# Altium schematic symbol library RPE_Sch_Library_Updated.SchLib: 34 symbols
Pins are listed as number, name and electrical type; pins without a type are passive.

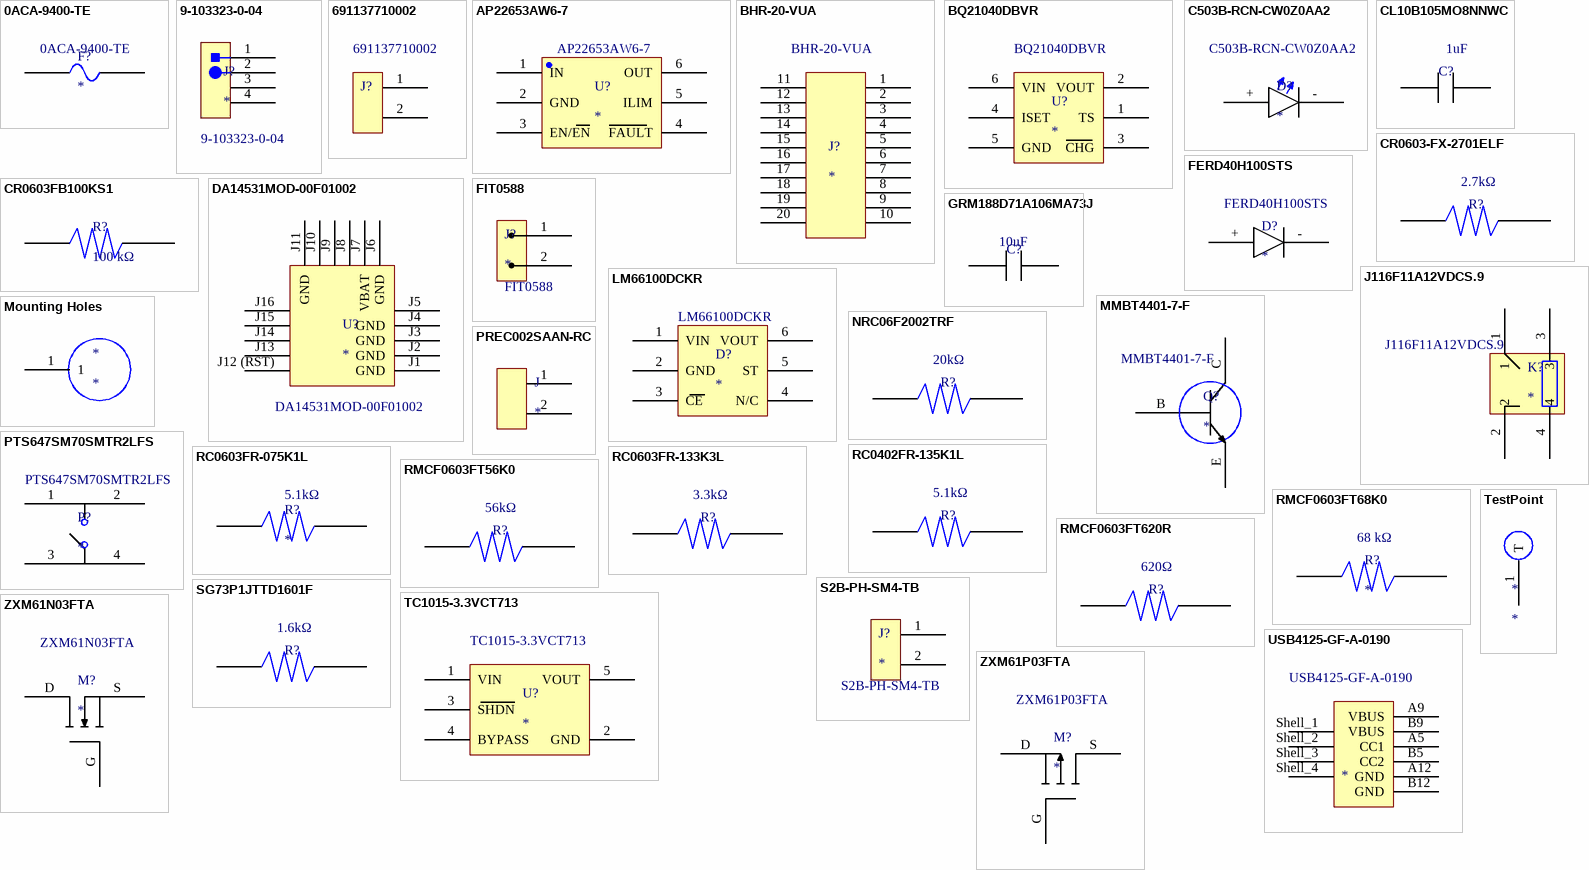
[diagram p0: symbols 0ACA-9400-TE to ZXM61P03FTA]

## 0ACA-9400-TE
designator F?  Manufacturer Part Number: 0ACA-9400-TE
Bel Fuse, Internal Part #: 0ACA-9400-TE 40A FUSE; Supplier: Digikey; Supplier Part Number: 507-0ACA-9400-TECT-ND; Manufacturer: Bel; RoHS: Yes; Category: Fuses; Stock: 695; Pricing: 1=1.32, 5=1.282, 10=1.199, 50=0.9926, 100=0.8272, 250=0.80652, 500=0.68244 (USD)
footprint 0ACA-9400-TE (FUSE BOARD MOUNT 40A 63VDC 2SMD)
pins: 1, 2

## 9-103323-0-04
designator J?  Manufacturer Part Number: 9-103323-0-04
CONN HEADR BRKWAY .100 04POS R/A 4 PIN HEADER; Manufacturer: TE Connectivity; Number of Positions: 4; Gender: Male; Supplier: Digikey; Supplier Part Number: A32705-04-ND; RoHS: Yes; Category: Connectors; Stock: 9773; Pricing: 1=0.69, 10=0.672, 100=0.5422, 500=0.4801, 1000=0.4208, 5000=0.36714, 10000=0.34172 (USD); Mounting Technology: Through Hole; Case/Package: 100; Housing Color: Black; Contact Material: Copper Alloy; Housing Material: Plastic; Contact Shape: Square; Contact Finish - Mating: TIN; Insulation Material: Thermoplastic; Insulation Color: Black; Min Operating Temperature: -65°C; Max Operating Temperature: 105°C; Number of Rows: 1; Packaging: Bulk; Termination: Solder; Number of Contacts: 4; Series: AMPMODU MOD II; Contact Type: Male Pin; Fastening Type: Pull; Length: 9.75mm; Width: 2.29mm; Height: 3.5mm; Lead Free: Lead Free; Flammability Rating: UL94 V-0; ComponentLink1URL: http://www.te.com/commerce/DocumentDelivery/DDEController?Action=srchrtrv&DocNm=103323&DocType=Customer+Drawing&DocLang=English&src-supplier=Digikey; ComponentLink1Description: http://www.te.com/commerce/DocumentDelivery/DDEController?Action=srchrtrv&DocNm=103323&DocType=Customer+Drawing&DocLang=English&src-supplier=Digikey
footprint 9-103323-0-04 (CONN HEADER R/A 4POS 2.54MM)
pins: 1, 2, 3, 4

## 691137710002
designator J?  Manufacturer Part Number: 691137710002  (hidden comment: *)
Series 1377 - 5.00 mm Horizontal Entry with Pressure Clamp WR-TBL, 2 pin; Manufacturer: Wurth Electronics; Plating: Copper Alloy,ZINC PLATED; Number of Levels: 1; Number of Positions Per Level: 2; Current: 16A; Voltage: 300V; Number of Contacts: 2NUMBER; Wire Gauge (Max): 30AWG; Wire Gauge (Min): 12AWG; Supplier: Digikey; Supplier Part Number: 732-10955-ND; RoHS: Yes; Category: Terminal Blocks; Stock: 5754; Pricing: 1=0.41, 10=0.363, 50=0.32, 100=0.287, 500=0.277 (USD); Mounting Technology: Through Hole; Pins: 2NUMBER; Color: Green; Housing Material: PC; Contact Material: 153,154ConductorMaterial; Min Operating Temperature: -30°C; Max Operating Temperature: 120°C; Termination: Screw; Series: WR-TBL Series 1377; Current Rating: 16A; Number of Rows: 1NUMBER; Voltage Rating: 300V; Height: 11.6mm; Lead Pitch: 5mm; RoHS Compliant: Yes; ComponentLink1URL: https://katalog.we-online.de/em/datasheet/691137710002.pdf?src-supplier=Digikey; ComponentLink1Description: https://katalog.we-online.de/em/datasheet/691137710002.pdf?src-supplier=Digikey
footprint 691137710002 (TERM BLK 2POS SIDE ENTRY 5MM PCB)
pins: 1, 2

## AP22653AW6-7
designator U?  Manufacturer Part Number: AP22653AW6-7
PRECISION ADJUSTABLE CURRENT-LIMITED POWER SWITCHES, -40 to 85°C pF, RoHS; Manufacturer: Diodes; Number of Channels: 1NUMBER; Supplier: Digikey; Supplier Part Number: 31-AP22653AW6-7CT-ND; RoHS: Yes; Category: USB Interface ICs; Stock: 404154; Pricing: 1=0.44, 10=0.378, 25=0.3524, 100=0.282, 250=0.2618, 500=0.22154, 1000=0.17118 (USD); ComponentLink1URL: https://www.diodes.com/assets/Datasheets/AP22652_53_52A_53A.pdf?src-supplier=Digikey; ComponentLink1Description: https://www.diodes.com/assets/Datasheets/AP22652_53_52A_53A.pdf?src-supplier=Digikey
footprint AP22653AW6-7 (LOAD SWITCH,SOT26,T&R,3K)
pins: 1 IN, 2 GND, 3 EN/EN, 4 FAULT, 5 ILIM, 6 OUT

## BHR-20-VUA
designator J?  Manufacturer Part Number: BHR-20-VUA
Conn Shrouded Header (4 Sides) HDR 20 POS 2.54mm Solder ST Top Entry Thru-Hole Tray; Manufacturer: Adam Equipment; Number of Positions: 20; Voltage Rating (AC): 250V; Current Rating: 1A; Supplier: Digikey; Supplier Part Number: 2057-BHR-20-VUA-ND; RoHS: Yes; Category: Card Edge Connectors; Stock: 2518; Pricing: 1=0.44, 10=0.387, 160=0.31944, 480=0.27775, 960=0.22915, 4960=0.20137, 10080=0.18748 (USD); Contact Material: Brass; Contact Shape: Square; Contact Finish - Mating: GOLD; Insulation Material: PBT; Contact Plating: Gold; Min Operating Temperature: -50°C; Max Operating Temperature: 105°C; Number of Rows: 2; Packaging: Tray; Termination: Solder; Series: BHR; Connector Type: Header; Fastening Type: Pull; Contact Type: Male Pin; Package Quantity: 216; Pitch: 2.54mm; Flammability Rating: UL94 V-0; Lead Free: Lead Free; ComponentLink1URL: https://datasheet.ciiva.com/16418/page-319-321-16418950.pdf?src-supplier=Future+Electronics; ComponentLink1Description: https://datasheet.ciiva.com/16418/page-319-321-16418950.pdf?src-supplier=Future+Electronics
pins: 1, 2, 3, 4, 5, 6, 7, 8, 9, 10, 11, 12, 13, 14, 15, 16, 17, 18, 19, 20

## BQ21040DBVR
designator U?  Manufacturer Part Number: BQ21040DBVR
IC BAT CHG LI-ION 1 CELL SOT23-6 BATTERY CHARGER; Manufacturer: Texas Instruments; Number of Cells: 1; Fault Protection: Over Voltage,Over Temperature,Short Circuit; Interface: USB; Max Charge Current: 800mA; Battery Pack Voltage: 4.2V; Max Supply Voltage: 6.45V; Supplier: Digikey; Supplier Part Number: 296-47315-6-ND; RoHS: Yes; Category: Battery Management; Stock: 1140; Pricing: 1=0.89, 10=0.78, 25=0.7328, 100=0.5979, 250=0.5554, 500=0.47268, 1000=0.37814 (USD); Mounting Technology: Surface Mount; Case/Package: SOT-23-6; Min Operating Temperature: 0°C; Max Operating Temperature: 125°C; Packaging: Cut Tape; Series: -; Lead Free: Lead Free; RoHS Compliant: Yes; ComponentLink1URL: http://www.ti.com/lit/ds/symlink/bq21040.pdf?src-supplier=Digikey; ComponentLink1Description: http://www.ti.com/lit/ds/symlink/bq21040.pdf?src-supplier=Digikey; ComponentLink2URL: http://www.ti.com/general/docs/suppproductinfo.tsp?distId=10&gotoUrl=http%3A%2F%2Fwww.ti.com%2Flit%2Fgpn%2Fbq21040&src-supplier=Digikey; ComponentLink2Description: http://www.ti.com/general/docs/suppproductinfo.tsp?distId=10&gotoUrl=http%3A%2F%2Fwww.ti.com%2Flit%2Fgpn%2Fbq21040&src-supplier=Digikey; ComponentLink3URL: http://www.ti.com/general/docs/suppproductinfo.tsp?distId=10&amp;gotoUrl=http%3A%2F%2Fwww.ti.com%2Flit%2Fgpn%2Fbq21040&src-supplier=Digikey; ComponentLink3Description: http://www.ti.com/general/docs/suppproductinfo.tsp?distId=10&amp;gotoUrl=http%3A%2F%2Fwww.ti.com%2Flit%2Fgpn%2Fbq21040&src-supplier=Digikey
footprint BQ21040DBVR (IC BATT CHG LI-ION 1CELL SOT23-6)
pins: 1 TS, 2 VOUT, 3 CHG, 4 ISET, 5 GND, 6 VIN

## C503B-RCN-CW0Z0AA2
designator D?  Manufacturer Part Number: C503B-RCN-CW0Z0AA2
CREE - C503B-RCN-CW0Z0AA2 - LED, Red, Through Hole, T-1 3/4 (5mm), 20 mA, 2.1 V, 624 nm; Lens Color: Colorless; Luminous Intensity: 7500mcd; Viewing Angle: 30°; Forward Voltage: 2.1V; Wavelength: 624nm; Forward Current: 20mA; Lens Style: Dome,Elliptical,Round; Lens Transparency: Clear; Number of LEDs: 1; Supplier: Digikey; Supplier Part Number: C503B-RCN-CW0Z0AA2CT-ND; Manufacturer: Cree; RoHS: Yes; Category: LEDs; Stock: 49819; Pricing: 1=0.18, 10=0.167, 100=0.1548, 1000=0.139 (USD); Mounting Technology: Through Hole; Case/Package: Radial; Pins: 5; Color: Red; Min Operating Temperature: -40°C; Max Operating Temperature: 100°C; Illumination Color: Red; Package Quantity: 2500; Packaging: Cut Tape; Test Current: 20mA; Dominant Wavelength: 624nm; Series: -; Height: 10.3mm; RoHS Compliant: Yes; Reach SVHC Compliant: Unknown; ComponentLink1URL: https://datasheet.ciiva.com/8076/c503brasranaasaanrbsrbnabsabnrcsrcnacsacn1079-8076255.pdf?src-supplier=Element14; ComponentLink1Description: https://datasheet.ciiva.com/8076/c503brasranaasaanrbsrbnabsabnrcsrcnacsacn1079-8076255.pdf?src-supplier=Element14; ComponentLink2URL: https://datasheet.ciiva.com/46396/1783695-46396283.pdf?src-supplier=Element14; ComponentLink2Description: https://datasheet.ciiva.com/46396/1783695-46396283.pdf?src-supplier=Element14; ComponentLink3URL: https://datasheet.ciiva.com/2116/c503brasranaasaanrbsrbnabsabnrcsrcnacsacn1079-2116093.pdf?src-supplier=Digikey; ComponentLink3Description: https://datasheet.ciiva.com/2116/c503brasranaasaanrbsrbnabsabnrcsrcnacsacn1079-2116093.pdf?src-supplier=Digikey
footprint C503B-RCN-CW0Z0AA2 (LED RED CLEAR 5MM ROUND T/H)
pins: +, -

## CL10B105MO8NNWC
designator C?  value 1uF  (hidden comment: *)
SMD Multilayer Ceramic Capacitor, 1 µF, 16 V, 0603 [1608 Metric], ± 20%, X7R, CL Series; Manufacturer: Samsung; Manufacturer Part Number: CL10B105MO8NNWC; Material: 4241ConductorMaterial; Voltage Rating: 16V; Dielectric: 1511DielectricType; Supplier: Digikey; Supplier Part Number: 1276-6524-1-ND; RoHS: Yes; Category: Ceramic Capacitors; Stock: 1284189; Pricing: 1=0.1, 10=0.034, 50=0.0196, 100=0.0152, 500=0.01142, 1000=0.00897 (USD); Mounting Technology: Surface Mount; Case/Package: 0603; Case Code (Metric): 1608; Case Code (Imperial): 0603; Min Operating Temperature: -55°C; Max Operating Temperature: 125°C; Packaging: Cut Tape; Tolerance: 20%; Series: CL; Voltage Rating (DC): 16V; Length: 0.063inch; Width: 0.031inch; Height: 900um; Thickness: 0.035inch; RoHS Compliant: Yes; ComponentLink1URL: https://media.digikey.com/pdf/Data%20Sheets/Samsung%20PDFs/CL10B105MO8NNWC.pdf?src-supplier=Digikey; ComponentLink1Description: https://media.digikey.com/pdf/Data%20Sheets/Samsung%20PDFs/CL10B105MO8NNWC.pdf?src-supplier=Digikey; ComponentLink2URL: http://www.farnell.com/datasheets/2710574.pdf?src-supplier=Farnell; ComponentLink2Description: http://www.farnell.com/datasheets/2710574.pdf?src-supplier=Farnell; ComponentLink3URL: https://datasheet.octopart.com/CL10B105MO8NNWC-Samsung-Electro-Mechanics-datasheet-120079234.pdf?src-supplier=Future+Electronics; ComponentLink3Description: https://datasheet.octopart.com/CL10B105MO8NNWC-Samsung-Electro-Mechanics-datasheet-120079234.pdf?src-supplier=Future+Electronics; ComponentLink4URL: http://www.farnell.com/datasheets/2710574.pdf?src-supplier=Newark; ComponentLink4Description: http://www.farnell.com/datasheets/2710574.pdf?src-supplier=Newark; ComponentLink5URL: http://www.farnell.com/datasheets/2710574.pdf?src-supplier=Element14; ComponentLink5Description: http://www.farnell.com/datasheets/2710574.pdf?src-supplier=Element14
footprint CL10B105MO8NNWC (CAP CER 1UF 16V X7R 0603)
pins: 1, 2

## CR0603-FX-2701ELF
designator R?  value 2.7kΩ  (hidden comment: *)
SMD Chip Resistor, 2.7 kOhm, ± 1%, 100 mW, 0603 [1608 Metric], Thick Film, General Purpose; Manufacturer: Bourns; Manufacturer Part Number: CR0603-FX-2701ELF; Power Rating: 100mW; Voltage Rating: 50V; Temperature Coefficient: 100ppm/°C; Supplier: Digikey; Supplier Part Number: CR0603-FX-2701ELFCT-ND; RoHS: Yes; Category: Chip SMD Resistors; Stock: 96883; Pricing: 1=0.1, 10=0.015, 50=0.009, 100=0.0075, 500=0.00498, 1000=0.00425 (USD); Mounting Technology: Surface Mount; Case/Package: 0603; Case Code (Imperial): 0603; Case Code (Metric): 1608; Contact Plating: Tin; Min Operating Temperature: -55°C; Max Operating Temperature: 155°C; Tolerance: 1%; Packaging: Tape and Reel; Package Quantity: 5000; Termination: SMD/SMT; Number of Terminations: 2; Max Power Dissipation: 100mW; Features: Moisture Resistant; Series: CR0603; Voltage Rating (DC): 50V; Length: 0.063inch; Width: 0.031inch; Height: 0.022inch; Thickness: 457um; Radiation Hardening: No; RoHS Compliant: Yes; ComponentLink1URL: https://datasheet.ciiva.com/18607/chpreztr-18607957.pdf?src-supplier=Digikey; ComponentLink1Description: https://datasheet.ciiva.com/18607/chpreztr-18607957.pdf?src-supplier=Digikey
footprint CR0603-FX-2701ELF (RES SMD 2.7K OHM 1% 1/10W 0603)
pins: 1, 2

## CR0603FB100KS1
designator R?, comment 100 kΩ
100 kΩ Resistor
footprint CR0603FB100KS1 (RES,SMD,0603,1%,100K,1/10W)
pins: 1, 2

## DA14531MOD-00F01002
designator U?  Manufacturer Part Number: DA14531MOD-00F01002
Bluetooth Module, 1MBPS, Bluetooth 5.1 Rohs Compliant: Yes; Manufacturer: Renesas; Supplier: Digikey; Supplier Part Number: 1695-DA14531MOD-00F01002CT-ND; RoHS: No; Category: RF Receivers, Transceivers; Stock: 218621; Pricing: 1=5.66, 10=5.05, 25=4.5448, 100=4.141, 250=3.737, 500=3.3532 (USD); ComponentLink1URL: https://datasheet.octopart.com/DA14531MOD-00F01002-Dialog-Semiconductor-datasheet-153441348.pdf?src-supplier=Farnell; ComponentLink1Description: https://datasheet.octopart.com/DA14531MOD-00F01002-Dialog-Semiconductor-datasheet-153441348.pdf?src-supplier=Farnell; ComponentLink2URL: https://datasheet.octopart.com/DA14531MOD-00F01002-Renesas-datasheet-169923465.pdf?src-supplier=Future+Electronics; ComponentLink2Description: https://datasheet.octopart.com/DA14531MOD-00F01002-Renesas-datasheet-169923465.pdf?src-supplier=Future+Electronics
footprint DA14531MOD_REN
pins: J1 GND, J2 GND, J3 GND, J4 GND, J5, J6 GND, J7 VBAT, J8, J9, J10, J11 GND, J12 (RST), J13, J14, J15, J16

## FERD40H100STS
designator D?  Manufacturer Part Number: FERD40H100STS
FERD40H100 Series 100 V 40 A Field Effect Rectifier Diode - TO-220AB; Manufacturer: STMicroelectronics; Average Rectified Current: 40A; Max Reverse Voltage (DC): 100V; Supplier: Digikey; Supplier Part Number: 497-16954-ND; RoHS: Yes; Category: Rectifier Diodes; Stock: 1657; Pricing: 1=1.4, 50=1.1266, 100=0.8927, 500=0.7567, 1000=0.61641, 2000=0.58028, 5000=0.55264, 10000=0.52714 (USD); Mounting Technology: Through Hole; Case/Package: TO-220-3; Packaging: Rail/Tube; Series: -; Diode Type: RECTIFIER; RoHS Compliant: Yes; ComponentLink1URL: http://www.st.com/content/ccc/resource/technical/document/datasheet/group3/4e/b5/b8/47/b6/af/41/d6/DM00281757/files/DM00281757.pdf/jcr:content/translations/en.DM00281757.pdf?src-supplier=Digikey; ComponentLink1Description: http://www.st.com/content/ccc/resource/technical/document/datasheet/group3/4e/b5/b8/47/b6/af/41/d6/DM00281757/files/DM00281757.pdf/jcr:content/translations/en.DM00281757.pdf?src-supplier=Digikey; ComponentLink2URL: https://datasheet.octopart.com/FERD40H100STS-STMicroelectronics-datasheet-62332851.pdf?src-supplier=Future+Electronics; ComponentLink2Description: https://datasheet.octopart.com/FERD40H100STS-STMicroelectronics-datasheet-62332851.pdf?src-supplier=Future+Electronics; ComponentLink3URL: https://datasheet.octopart.com/FERD40H100STS-STMicroelectronics-datasheet-141402762.pdf?src-supplier=TME; ComponentLink3Description: https://datasheet.octopart.com/FERD40H100STS-STMicroelectronics-datasheet-141402762.pdf?src-supplier=TME
footprint FERD40H100STS (DIODE FERD 100V 40A TO220AB)
pins: +, -

## FIT0588
designator J?  Manufacturer Part Number: FIT0588
High Quality Gold Plated Male and Female Bullet Connector; Manufacturer: DFRobot; Supplier: Digikey; Supplier Part Number: 1738-1438-ND; RoHS: No; Category: LDO; Stock: 1280; Pricing: 1=3.9 (USD); ComponentLink1URL: https://media.digikey.com/pdf/Data%20Sheets/DFRobot%20PDFs/FIT0588_Web.pdf?src-supplier=Digikey; ComponentLink1Description: https://media.digikey.com/pdf/Data%20Sheets/DFRobot%20PDFs/FIT0588_Web.pdf?src-supplier=Digikey
footprint FIT0588 (HIGH QUALITY GOLD PLATED XT90 MA Bullet Connector)
pins: 1, 2

## GRM188D71A106MA73J
designator C?  value 10uF  (hidden comment: *)
Cap 10UF 10VDC X7T 20% SMD 0603 Paper Tape; Manufacturer: Murata; Manufacturer Part Number: GRM188D71A106MA73J; Voltage Rating: 10V; Supplier: Digikey; Supplier Part Number: 490-GRM188D71A106MA73JCT-ND; RoHS: Yes; Category: Ceramic Capacitors; Stock: 9799; Pricing: 1=0.3, 10=0.197, 50=0.145, 100=0.118, 500=0.09316, 1000=0.07867, 2500=0.07453, 5000=0.07039 (USD); Mounting Technology: Surface Mount; Case/Package: 0603; Weight: 0.000222oz; Min Operating Temperature: -55°C; Max Operating Temperature: 125°C; Packaging: Tape and Reel; Tolerance: 20%; Package Quantity: 10000; Dielectric: X7T; Voltage Rating (DC): 10V; Series: GRM; RoHS Compliant: Yes; ComponentLink1URL: http://www.mouser.com/ds/2/281/c02e-2905.pdf?src-supplier=Mouser; ComponentLink1Description: http://www.mouser.com/ds/2/281/c02e-2905.pdf?src-supplier=Mouser; ComponentLink2URL: http://search.murata.co.jp/Ceramy/image/img/A01X/partnumbering_e_01.pdf?src-supplier=Digikey; ComponentLink2Description: http://search.murata.co.jp/Ceramy/image/img/A01X/partnumbering_e_01.pdf?src-supplier=Digikey
footprint GRM188D71A106MA73J (CAP CER 10UF 10V X7T 0603)
pins: 1, 2

## J116F11A12VDCS.9
designator K?  Manufacturer Part Number: J116F11A12VDCS.9
Relay Gen Purpose SPST 50A 12V; Manufacturer: CIT Relay & Switch; Supplier: Digikey; Supplier Part Number: 2449-J116F11A12VDCS.9-ND; RoHS: No; Category: Power Relays; Stock: 434; Pricing: 1=3.35, 15=3.136, 30=2.78767, 60=2.64817, 105=2.50886, 255=2.23008, 510=2.09071, 1005=1.95132, 5010=1.88163 (USD)
footprint J116F11A12VDCS.9 (RELAY GEN PURPOSE SPST 50A 12V)
pins: 1, 2, 3, 4

## LM66100DCKR
designator D?  Manufacturer Part Number: LM66100DCKR
1.5-V to 5.5-V, 1.5-A, 0.5-uA IQ ideal diode with Integrated FET 6-SC70 -40 to 105; Manufacturer: Texas Instruments; Max Output current: 1.5A; Turn-On Delay Time: 27us; Turn-Off Delay Time: 2us; Supplier: Digikey; Supplier Part Number: 296-53541-1-ND; RoHS: Yes; Category: Integrated Circuits (ICs); Stock: 1921; Pricing: 1=0.41, 10=0.332, 25=0.304, 100=0.2262, 250=0.20504, 500=0.16968, 1000=0.12726 (USD); Mounting Technology: Surface Mount; Min Operating Temperature: -40°C; Max Operating Temperature: 105°C; Series: -; ComponentLink1URL: http://www.ti.com/general/docs/suppproductinfo.tsp?distId=10&amp;gotoUrl=http%3A%2F%2Fwww.ti.com%2Flit%2Fgpn%2flm66100&src-supplier=Digikey; ComponentLink1Description: http://www.ti.com/general/docs/suppproductinfo.tsp?distId=10&amp;gotoUrl=http%3A%2F%2Fwww.ti.com%2Flit%2Fgpn%2flm66100&src-supplier=Digikey
footprint LM66100DCKR (IC OR CTRLR IDEAL DIODE SC70-6)
pins: 1 VIN, 2 GND, 3 CE, 4 N/C, 5 ST, 6 VOUT

## MMBT4401-7-F
designator Q?  Manufacturer Part Number: MMBT4401-7-F
Bipolar Transistors - 40V NPN SMALL SIGNAL TRANSISTOR IN SOT23 package; Manufacturer: Diodes Zetex; Max Power Dissipation: 310mW; Frequency: 250MHz; Max Collector Current: 600mA; Collector Base Voltage (VCBO): 60V; Number of Elements: 1; Emitter Base Voltage (VEBO): 6V; Collector-emitter Voltage-Max: 750mV; Supplier: Digikey; Supplier Part Number: MMBT4401-7-F-ND; RoHS: Yes; Category: BJTs; Pricing: 10000=0.01919, 30000=0.01775, 50000=0.01535, 100000=0.01439, 250000=0.01276 (USD); Mounting Technology: Surface Mount; Case/Package: SOT-23; Pins: 3; Min Operating Temperature: -55°C; Max Operating Temperature: 150°C; Packaging: Tape and Reel; Collector Emitter Voltage (VCEO): 40V; Transition Frequency: 250MHz; Polarity: NPN; Power Dissipation: 310mW; Collector Emitter Breakdown Voltage: 40V; Series: Automotive, AEC-Q101; Clock Frequency: 250MHz; Radiation Hardening: No; Reach SVHC Compliant: No; RoHS Compliant: Yes; ComponentLink1URL: https://datasheet.ciiva.com/15139/getdatasheetpartid-234007-15139792.pdf?src-supplier=Verical; ComponentLink1Description: https://datasheet.ciiva.com/15139/getdatasheetpartid-234007-15139792.pdf?src-supplier=Verical
footprint MMBT4401-13-F (TRANS NPN 40V 0.6A SOT23-3)
pins: B, C, E

## Mounting Holes
designator *
footprint Mounting Holes
pins: 1

## NRC06F2002TRF
designator R?  value 20kΩ  (hidden comment: *)
Resistor Thick Film 0603 20k Ohm 1% 1/10 Watt ±100ppm °C Surface Mount Paper Tape and Reel; Manufacturer: NIC Components; Manufacturer Part Number: NRC06F2002TRF; Power Rating: 100mW; Temperature Coefficient: 100ppm/°C; Voltage Rating (DC): 50V; Supplier: Avnet; Supplier Part Number: 08AH8491; RoHS: Yes; Category: Chip SMD Resistors; Stock: 10265; Pricing: 1=0.008 (USD); Mounting Technology: Surface Mount; Case/Package: 0603; Contact Plating: Tin,Matte; Min Operating Temperature: -55°C; Max Operating Temperature: 155°C; Tolerance: 1%; Packaging: Tape and Reel; Technology: THICK FILM; Construction: Rectangular; Length: 1.6mm; Height: 0.45mm; Depth: 0.8mm; Military Standard: Not; RoHS Compliant: Yes; Lead Free: 5697LeadFree; ComponentLink1URL: https://datasheet.ciiva.com/34303/2008065-34303777.pdf?src-supplier=Jameco; ComponentLink1Description: https://datasheet.ciiva.com/34303/2008065-34303777.pdf?src-supplier=Jameco; ComponentLink2URL: https://datasheet.ciiva.com/9157/nrc-9157285.pdf?src-supplier=Avnet; ComponentLink2Description: https://datasheet.ciiva.com/9157/nrc-9157285.pdf?src-supplier=Avnet
pins: 1, 2

## PREC002SAAN-RC
designator J
CONN HEADER VERT 2POS 2.54MM
footprint PREC002SAAN-RC (CONN HEADER VERT 2POS 2.54MM)
pins: 1, 2

## PTS647SM70SMTR2LFS
designator P?  Manufacturer Part Number: PTS647SM70SMTR2LFS
Switch Tactile N.O. SPST Round Button Gull Wing 0.05A 12VDC 100000Cycles 1.77N SMD T/R; Manufacturer: ITT C&K; Illumination Type: Non-Illuminated; Switch Function: Off-Mom; Actuator Type: Standard; Operating Force: 180gf; Switch Travel: 0.25mm; Ratings: IP40; Supplier: Digikey; Supplier Part Number: PTS647SM70SMTR2LFSCT-ND; RoHS: No; Category: Tactile Switches; Stock: 62901; Pricing: 1=0.26, 10=0.249, 25=0.236, 100=0.2138, 250=0.19488, 500=0.18114 (USD); Mounting Technology: Surface Mount; Mechanical Life: 100000Cycles; Min Operating Temperature: -20°C; Max Operating Temperature: 70°C; Throw Configuration: SPST; Packaging: Cut Tape; Termination: Gull Wing; Series: PTS647; ComponentLink1URL: https://www.ckswitches.com/media/2567/pts647.pdf?src-supplier=Digikey; ComponentLink1Description: https://www.ckswitches.com/media/2567/pts647.pdf?src-supplier=Digikey
footprint PTS 647 SK50 SMTR2 LFS (SWITCH TACTILE SPST-NO 0.05A 12V)
pins: 1, 2, 3, 4

## RC0402FR-135K1L
designator R?  value 5.1kΩ  (hidden comment: *)
SMD Chip Resistor, 5.1 kOhm, ± 1%, 63 mW, 0402 [1005 Metric], Thick Film, General Purpose; Manufacturer: Yageo; Manufacturer Part Number: RC0402FR-135K1L; Temperature Coefficient: 100ppm/°C; Power Rating: 62.5mW; Voltage Rating: 50V; Supplier: Digikey; Supplier Part Number: 13-RC0402FR-135K1LCT-ND; RoHS: Yes; Category: Chip SMD Resistors; Stock: 259167; Pricing: 1=0.1, 10=0.015, 50=0.0088, 100=0.0073, 500=0.00488, 1000=0.00417, 5000=0.00297, 10000=0.00261 (USD); Case/Package: 0402; Contact Plating: Tin,Matte; Case Code (Imperial): 0402; Case Code (Metric): 1005; Min Operating Temperature: -55°C; Max Operating Temperature: 155°C; Tolerance: 1%; Packaging: Tape and Reel; Termination: SMD/SMT; Series: RC; Length: 1mm; Width: 0.5mm; Height: 0.35mm; RoHS Compliant: Yes; ComponentLink1URL: https://datasheet.ciiva.com/8892/pyu-rc0402-51-rohs-l-6-8892773.pdf?src-supplier=Avnet; ComponentLink1Description: https://datasheet.ciiva.com/8892/pyu-rc0402-51-rohs-l-6-8892773.pdf?src-supplier=Avnet
pins: 1, 2

## RC0603FR-075K1L
designator R?  value 5.1kΩ
SMD Chip Resistor, 5.1 kOhm, ± 1%, 100 mW, 0603 [1608 Metric], Thick Film, General Purpose; Manufacturer: Yageo; Manufacturer Part Number: RC0603FR-075K1L; Power Rating: 100mW; Temperature Coefficient: 100ppm/°C; Voltage Rating: 50V; Supplier: Digikey; Supplier Part Number: 311-5.10KHRCT-ND; RoHS: Yes; Category: Chip SMD Resistors; Stock: 2462904; Pricing: 1=0.1, 10=0.019, 50=0.0112, 100=0.0093, 500=0.00622, 1000=0.00532 (USD); Case/Package: 0603; Pins: 2NUMBER; Case Code (Imperial): 0603; Case Code (Metric): 1608; Min Operating Temperature: -55°C; Max Operating Temperature: 155°C; Tolerance: 1%; Series: RC; Packaging: Tape and Reel; Package Quantity: 1; Termination: SMD/SMT; Resistor Type: Thick Film; Number of Terminations: 2; Max Power Dissipation: 100mW; Features: Moisture Resistant; Resistance Tolerance: 1%; Construction: Rectangular; Voltage Rating (DC): 50V; Length: 0.063inch; Width: 0.031inch; Height: 0.022inch; Depth: 0.8mm; RoHS Compliant: Yes; Reach SVHC Compliant: No; Military Standard: Not; Lead Free: 5697LeadFree; ComponentLink1URL: https://datasheet.ciiva.com/46395/443971-46395016.pdf?src-supplier=Element14; ComponentLink1Description: https://datasheet.ciiva.com/46395/443971-46395016.pdf?src-supplier=Element14; ComponentLink2URL: https://datasheet.ciiva.com/2454/pyu-r-int-thick-7-2454046.pdf?src-supplier=Digikey; ComponentLink2Description: https://datasheet.ciiva.com/2454/pyu-r-int-thick-7-2454046.pdf?src-supplier=Digikey; ComponentLink3URL: https://datasheet.ciiva.com/2454/pyu-r-int-thick-7-2454047.pdf?src-supplier=Digikey; ComponentLink3Description: https://datasheet.ciiva.com/2454/pyu-r-int-thick-7-2454047.pdf?src-supplier=Digikey; ComponentLink4URL: https://datasheet.ciiva.com/2454/pyu-r-int-thick-7-2454045.pdf?src-supplier=Digikey; ComponentLink4Description: https://datasheet.ciiva.com/2454/pyu-r-int-thick-7-2454045.pdf?src-supplier=Digikey; ComponentLink5URL: https://datasheet.ciiva.com/15189/getdatasheetpartid-326732-15189786.pdf?src-supplier=Verical; ComponentLink5Description: https://datasheet.ciiva.com/15189/getdatasheetpartid-326732-15189786.pdf?src-supplier=Verical
footprint RC0603FR-075K1L (RES 5.1K OHM 1% 1/10W 0603)
pins: 1, 2

## RC0603FR-133K3L
designator R?  value 3.3kΩ  (hidden comment: *)
SMD Chip Resistor, 3.3 kOhm, ± 1%, 100 mW, 0603 [1608 Metric], Thick Film, General Purpose; Manufacturer: Yageo; Manufacturer Part Number: RC0603FR-133K3L; Voltage Rating: 50V; Power Rating: 100mW; Temperature Coefficient: 100ppm/°C; Supplier: Digikey; Supplier Part Number: 13-RC0603FR-133K3LCT-ND; RoHS: Yes; Category: Chip SMD Resistors; Stock: 52269; Pricing: 1=0.1, 10=0.019, 50=0.0114, 100=0.0094, 500=0.00628, 1000=0.00536, 5000=0.00385, 10000=0.00337 (USD); Case/Package: 0603; Case Code (Imperial): 0603; Case Code (Metric): 1608; Min Operating Temperature: -55°C; Max Operating Temperature: 155°C; Termination: SMD/SMT; Series: RC; Packaging: Tape and Reel; Tolerance: 1%; Length: 1.6mm; Width: 0.8mm; Height: 0.45mm; RoHS Compliant: Yes; Lead Free: 5697LeadFree; ComponentLink1URL: http://www.mouser.com/ds/2/447/RC0603-272842.pdf?src-supplier=Mouser; ComponentLink1Description: http://www.mouser.com/ds/2/447/RC0603-272842.pdf?src-supplier=Mouser; ComponentLink2URL: https://datasheet.octopart.com/RC0603FR-133K3L-Yageo-datasheet-164759695.pdf?src-supplier=Future+Electronics; ComponentLink2Description: https://datasheet.octopart.com/RC0603FR-133K3L-Yageo-datasheet-164759695.pdf?src-supplier=Future+Electronics
footprint RC0603JR-133K3L (RES 3.3K OHM 5% 1/10W 0603)
pins: 1, 2

## RMCF0603FT56K0
designator R?  (value not drawn)
Res Thick Film 0603 56K Ohm 1% 0.1W(1/10W) ±100ppm/C Pad SMD Automotive T/R; Manufacturer: Stackpole Electronics; Manufacturer Part Number: RMCF0603FT56K0; Max Power Dissipation: 100mW; Temperature Coefficient: 100ppm/°C; Voltage Rating: 75V; Supplier: Digikey; Supplier Part Number: RMCF0603FT56K0CT-ND; RoHS: Yes; Category: Chip SMD Resistors; Stock: 53700; Pricing: 1=0.1, 10=0.015, 50=0.009, 100=0.0075, 500=0.00498, 1000=0.00425 (USD); Mounting Technology: Surface Mount; Case/Package: 0603; Case Code (Metric): 1608; Case Code (Imperial): 0603; Contact Plating: Tin,Matte; Min Operating Temperature: -55°C; Max Operating Temperature: 155°C; Tolerance: 1%; Packaging: Tape and Reel; Number of Terminations: 2; Features: Automotive AEC-Q200; Series: RMCF; Construction: Rectangular; Length: 0.061inch; Width: 0.031inch; Height: 0.022inch; Depth: 0.8mm; Radiation Hardening: No; Military Standard: Not; RoHS Compliant: Yes; Lead Free: 5697LeadFree; ComponentLink1URL: http://components.arrow.com/part/dataview/50498090S7119715N1174?src-supplier=Arrow+Electronics; ComponentLink1Description: http://components.arrow.com/part/dataview/50498090S7119715N1174?src-supplier=Arrow+Electronics; ComponentLink2URL: https://www.seielect.com/catalog/SEI-RMCF_RMCP.pdf?src-supplier=Avnet; ComponentLink2Description: https://www.seielect.com/catalog/SEI-RMCF_RMCP.pdf?src-supplier=Avnet; ComponentLink3URL: https://www.seielect.com/catalog/SEI-Packaging.pdf?src-supplier=Digikey; ComponentLink3Description: https://www.seielect.com/catalog/SEI-Packaging.pdf?src-supplier=Digikey; ComponentLink4URL: https://www.seielect.com/Catalog/SEI-RMCF_RMCP.pdf?src-supplier=Digikey; ComponentLink4Description: https://www.seielect.com/Catalog/SEI-RMCF_RMCP.pdf?src-supplier=Digikey
pins: 1, 2
text: 56kΩ

## RMCF0603FT68K0
designator R?  value 68 kΩ
Res Thick Film 0603 68K Ohm 1% 0.1W(1/10W) ±100ppm/C Pad SMD T/R Automotive AEC-Q200; Manufacturer: Stackpole Electronics; Manufacturer Part Number: RMCF0603FT68K0; Max Power Dissipation: 100mW; Temperature Coefficient: 100ppm/°C; Voltage Rating: 75V; Supplier: Digikey; Supplier Part Number: RMCF0603FT68K0CT-ND; RoHS: Yes; Category: Chip SMD Resistors; Stock: 195427; Pricing: 1=0.1, 10=0.015, 50=0.009, 100=0.0075, 500=0.00498, 1000=0.00425 (USD); Mounting Technology: Surface Mount; Case/Package: 0603; Case Code (Metric): 1608; Case Code (Imperial): 0603; Contact Plating: Tin,Matte; Min Operating Temperature: -55°C; Max Operating Temperature: 155°C; Packaging: Tape and Reel; Tolerance: 1%; Package Quantity: 5000; Number of Terminations: 2; Features: Automotive AEC-Q200; Series: RMCF; Construction: Rectangular; Length: 0.061inch; Width: 0.031inch; Height: 0.022inch; Depth: 0.8mm; Radiation Hardening: No; Military Standard: Not; RoHS Compliant: Yes; ComponentLink1URL: http://components.arrow.com/part/dataview/50507743S112918N1174?src-supplier=Arrow+Electronics; ComponentLink1Description: http://components.arrow.com/part/dataview/50507743S112918N1174?src-supplier=Arrow+Electronics; ComponentLink2URL: https://www.seielect.com/catalog/SEI-Packaging.pdf?src-supplier=Digikey; ComponentLink2Description: https://www.seielect.com/catalog/SEI-Packaging.pdf?src-supplier=Digikey; ComponentLink3URL: https://www.seielect.com/catalog/SEI-RMCF_RMCP.pdf?src-supplier=Avnet; ComponentLink3Description: https://www.seielect.com/catalog/SEI-RMCF_RMCP.pdf?src-supplier=Avnet
footprint RMCF0603FT68K0 (68k ohm Chip resistor)
pins: 1, 2

## RMCF0603FT620R
designator R?  value 620Ω
Res Thick Film 0603 620 Ohm 1% 1/10W ±100ppm/°C Molded SMD SMD Paper T/R; Manufacturer: Stackpole Electronics; Manufacturer Part Number: RMCF0603FT620R; Max Power Dissipation: 100mW; Voltage Rating: 75V; Supplier: Digikey; Supplier Part Number: RMCF0603FT620RCT-ND; RoHS: Yes; Category: Chip SMD Resistors; Stock: 43996; Pricing: 1=0.1, 10=0.015, 50=0.009, 100=0.0075, 500=0.00498, 1000=0.00425 (USD); Mounting Technology: Surface Mount; Case/Package: 0603; Case Code (Metric): 1608; Case Code (Imperial): 0603; Contact Plating: Tin,Matte; Min Operating Temperature: -55°C; Max Operating Temperature: 155°C; Packaging: Tape and Reel; Tolerance: 1%; Number of Terminations: 2; Temperature Coefficient: 100ppm/°C; Features: Automotive AEC-Q200; Series: RMCF; Length: 0.061inch; Width: 0.031inch; Height: 0.022inch; Ratings: AEC-Q200; Radiation Hardening: No; Lead Free: Lead Free; RoHS Compliant: Yes; ComponentLink1URL: https://www.seielect.com/Catalog/SEI-RMCF_RMCP.pdf?src-supplier=Digikey; ComponentLink1Description: https://www.seielect.com/Catalog/SEI-RMCF_RMCP.pdf?src-supplier=Digikey; ComponentLink2URL: https://www.seielect.com/catalog/SEI-Packaging.pdf?src-supplier=Digikey; ComponentLink2Description: https://www.seielect.com/catalog/SEI-Packaging.pdf?src-supplier=Digikey; ComponentLink3URL: https://www.seielect.com/catalog/SEI-RMCF_RMCP.pdf?src-supplier=Avnet; ComponentLink3Description: https://www.seielect.com/catalog/SEI-RMCF_RMCP.pdf?src-supplier=Avnet
footprint RMCF0603FT620R (RES 620 OHM 1% 1/10W 0603)
pins: 1, 2

## S2B-PH-SM4-TB
designator J?  Manufacturer Part Number: S2B-PH-SM4-TB
Connector Header, PH Series, 2 Position, Side Entry, 2.00mm, Solder, Surface Mount, Natural; Voltage Rating: 100V; Contact Resistance: 20mR; Current Rating: 2A; Insulation Resistance: 1GR; Number of Contacts: 2NUMBER; Number of Positions: 2; Gender: 29Gender; Pitch: 2mm; Supplier: Newark; Supplier Part Number: 38K8067; Manufacturer: S2B-PH-SM4-TB; RoHS: No; Category: Connectors; Stock: 35640; Pricing: 1=0.57, 10=0.519, 100=0.414, 500=0.356 (USD); Mounting Technology: Surface Mount; Pins: 4NUMBER; Contact Material: Copper Alloy; Housing Material: 4261ConductorMaterial; Color: 47Colour; Contact Plating: 154ConductorMaterial; Housing Color: 50Colour; Contact Shape: Square; Contact Finish - Mating: TIN; Insulation Material: Nylon; Insulation Color: Natural; Material: 4302ConductorMaterial; Weight: 28.349523g; Min Operating Temperature: -25°C; Max Operating Temperature: 85°C; Orientation: 5492OrientationType; Series: PH; Packaging: Cut Tape; Number of Rows: 1; Termination: Solder; Max Current Rating: 2A; Max Voltage Rating (AC): 100V; Number of Poles: 2NUMBER; Voltage Rating (AC): 100V; Working Voltage: 100V; Connector Type: Header; Fastening Type: Detent; Contact Type: Male Pin; Max Voltage Rating (DC): 100V; Voltage Rating (DC): 100V; Length: 6.096mm; Width: 2.34mm; Height: 6mm; Depth: 7.6mm; Contact Mating Length: 3.302mm; Lead Pitch: 2mm; Radiation Hardening: 5898YesNo; Flammability Rating: UL94 V-0; Lead Free: 5697LeadFree; Reach SVHC Compliant: 4186SVHC; ComponentLink1URL: http://datasheet.octopart.com/S2B-PH-SM4-TB-%28LF%29%28SN%29-JST-datasheet-12510261.pdf?src-supplier=Distrelec; ComponentLink1Description: http://datasheet.octopart.com/S2B-PH-SM4-TB-%28LF%29%28SN%29-JST-datasheet-12510261.pdf?src-supplier=Distrelec; ComponentLink2URL: http://www.farnell.com/datasheets/1699381.pdf?src-supplier=Element14; ComponentLink2Description: http://www.farnell.com/datasheets/1699381.pdf?src-supplier=Element14; ComponentLink3URL: https://datasheet.octopart.com/S2B-PH-SM4-TB-%28LF%29%28SN%29-JST-datasheet-12510261.pdf?src-supplier=TME; ComponentLink3Description: https://datasheet.octopart.com/S2B-PH-SM4-TB-%28LF%29%28SN%29-JST-datasheet-12510261.pdf?src-supplier=TME
pins: 1, 2

## SG73P1JTTD1601F
designator R?  value 1.6kΩ  (hidden comment: *)
Res, 1K6, 1%, 0.2W, 0603 Rohs Compliant: Yes; Manufacturer: KOA Speer; Manufacturer Part Number: SG73P1JTTD1601F; Power Rating: 200mW; Voltage Rating: 50V; Temperature Coefficient: 100ppm/°C; Supplier: Digikey; Supplier Part Number: 2019-SG73P1JTTD1601FTR-ND; RoHS: Yes; Category: Chip SMD Resistors; Pricing: 5000=0.01791 (USD); Case/Package: 0603; Pins: 2; Case Code (Imperial): 0603; Case Code (Metric): 1608; Min Operating Temperature: -55°C; Max Operating Temperature: 155°C; Packaging: Tape and Reel; Package Quantity: 5000; Tolerance: 1%; Voltage Rating (DC): 50V; Resistor Type: Thick Film; Termination: SMD/SMT; Series: SG73; Resistance Tolerance: 1%; Length: 1.6mm; Width: 0.8mm; Height: 0.45mm; RoHS Compliant: Yes; Reach SVHC Compliant: Unknown; ComponentLink1URL: https://datasheet.ciiva.com/22640/78338-22640856.pdf?src-supplier=Farnell; ComponentLink1Description: https://datasheet.ciiva.com/22640/78338-22640856.pdf?src-supplier=Farnell
footprint SG73P1JTTD1601F (RES 1.6K OHM 1% 1/3W 0603)
pins: 1, 2

## TC1015-3.3VCT713
designator U?  Manufacturer Part Number: TC1015-3.3VCT713
TC1015 Series 100 mA 3.3 V Fixed Output LDO Regulator w/ Shutdown - SOT-23-5; Manufacturer: Microchip; Min Input Voltage: 2.7V; Max Supply Voltage: 6V; Output Voltage: 3.3V; Number of Outputs: 1; Polarity: Positive; Accuracy: 2.5%; Max Output current: 100mA; Dropout Voltage: 180mV; Quiescent Current: 80uA; Power Supply Rejection Ratio (PSRR): 64dB; Number of Channels: 1NUMBER; Supplier: Digikey; Supplier Part Number: TC1015-3.3VCT713CT-ND; RoHS: Yes; Category: Voltage Regulators - Linear; Stock: 23325; Pricing: 1=0.49, 25=0.41, 100=0.36 (USD); Mounting Technology: Surface Mount; Case/Package: SOT-23; Pins: 5; Min Operating Temperature: -40°C; Max Operating Temperature: 125°C; Packaging: Tape and Reel; Output Type: Fixed; Series: -; Package Quantity: 3000; Output Current: 100mA; Number of Regulators: 1; Termination: SMD/SMT; Current Rating: 100mA; Min Supply Voltage: 2.7V; Nominal Output Voltage: 3.3V; Min Output Voltage: 3.3V; Max Output Voltage: 3.3V; Output Configuration: Positive; Length: 3.1mm; Width: 1.8mm; Height: 1.3mm; Radiation Hardening: No; RoHS Compliant: Yes; Reach SVHC Compliant: No; Lead Free: Lead Free; ComponentLink1URL: https://datasheet.ciiva.com/41463/001085540-da-01-en-ic-reg-ldo-tc1015-3-3vct713-sot-23-5-mcp-41463228.pdf?src-supplier=Conrad; ComponentLink1Description: https://datasheet.ciiva.com/41463/001085540-da-01-en-ic-reg-ldo-tc1015-3-3vct713-sot-23-5-mcp-41463228.pdf?src-supplier=Conrad; ComponentLink2URL: https://datasheet.ciiva.com/8238/jp011417-8238485.pdf?src-supplier=Avnet; ComponentLink2Description: https://datasheet.ciiva.com/8238/jp011417-8238485.pdf?src-supplier=Avnet; ComponentLink3URL: https://datasheet.ciiva.com/2040/filehandler-aspxddocname-en026002-2040022.pdf?src-supplier=Digikey; ComponentLink3Description: https://datasheet.ciiva.com/2040/filehandler-aspxddocname-en026002-2040022.pdf?src-supplier=Digikey; ComponentLink4URL: https://datasheet.ciiva.com/2040/filehandler-aspxddocname-en026002-2040023.pdf?src-supplier=Digikey; ComponentLink4Description: https://datasheet.ciiva.com/2040/filehandler-aspxddocname-en026002-2040023.pdf?src-supplier=Digikey; ComponentLink5URL: https://datasheet.ciiva.com/2040/filehandler-aspxddocname-en026002-2040024.pdf?src-supplier=Digikey; ComponentLink5Description: https://datasheet.ciiva.com/2040/filehandler-aspxddocname-en026002-2040024.pdf?src-supplier=Digikey; ComponentLink6URL: https://datasheet.ciiva.com/2075/21335e-2075754.pdf?src-supplier=Digikey; ComponentLink6Description: https://datasheet.ciiva.com/2075/21335e-2075754.pdf?src-supplier=Digikey; ComponentLink7URL: https://datasheet.ciiva.com/14562/70046349-14562758.pdf?src-supplier=Allied+Electronics; ComponentLink7Description: https://datasheet.ciiva.com/14562/70046349-14562758.pdf?src-supplier=Allied+Electronics; ComponentLink8URL: https://datasheet.ciiva.com/22711/82112-22711035.pdf?src-supplier=Element14; ComponentLink8Description: https://datasheet.ciiva.com/22711/82112-22711035.pdf?src-supplier=Element14; ComponentLink9URL: https://datasheet.ciiva.com/8041/21335e-8041544.pdf?src-supplier=Element14; ComponentLink9Description: https://datasheet.ciiva.com/8041/21335e-8041544.pdf?src-supplier=Element14
footprint TC1015-3.3VCT713 (IC REG LINEAR 3.3V 100MA SOT23-5)
pins: 1 VIN, 2 GND, 3 SHDN, 4 BYPASS, 5 VOUT

## TestPoint
designator *
pins: 1 T

## USB4125-GF-A-0190
designator J?  Manufacturer Part Number: USB4125-GF-A-0190
USB Connector, 24 Contact(s), Female, Right Angle, Solder Terminal, Locking, Receptacle; Manufacturer: Global Connector Technology; USB Standard: 6108USBStandard; Current Rating: 3A; Number of Contacts: 6NUMBER; Voltage Rating: 20V; Supplier: Newark; Supplier Part Number: 56AJ0230; RoHS: No; Category: USB Connectors; Stock: 2157; Pricing: 1=0.379, 50=0.379, 100=0.347, 250=0.347, 500=0.32, 1000=0.32, 1500=0.32, 3000=0.298 (USD); Contact Material: 157ConductorMaterial; Min Operating Temperature: -30°C; Max Operating Temperature: 85°C; Height: 3.41mm
footprint USB4125-GF-A (CONN RCPT TYPE C 6P SMD RA)
pins: A5 CC1, A9 VBUS, A12 GND, B5 CC2, B9 VBUS, B12 GND, Shell_1, Shell_2, Shell_3, Shell_4

## ZXM61N03FTA
designator M?  Manufacturer Part Number: ZXM61N03FTA
N-Channel 30V 1.4A (Ta) 625mW (Ta) Surface Mount SOT-23-3; Manufacturer: Diodes Zetex; Rise Time: 2.5ns; Gate to Source Voltage (Vgs): 20V; Turn-Off Delay Time: 5.8ns; Turn-On Delay Time: 1.9ns; Rds On Max: 220mR; Input Capacitance: 150pF; Nominal Vgs: 1V; Number of Elements: 1; Power Dissipation: 806mW; Current Rating: 1.2A; Supplier: Digikey; Supplier Part Number: ZXM61N03FCT-ND; RoHS: Yes; Category: MOSFETs; Stock: 146742; Pricing: 1=0.46, 10=0.397, 100=0.2757, 500=0.21528, 1000=0.17498 (USD); Mounting Technology: Surface Mount; Case/Package: SOT-23; Pins: 3; Weight: 0.000282oz; Min Operating Temperature: -55°C; Max Operating Temperature: 150°C; Fall Time: 2.5ns; Package Quantity: 3000; Packaging: Tape and Reel; Max Power Dissipation: 625mW; Dual Supply Voltage: 30V; Drain to Source Voltage (Vdss): 30V; Continuous Drain Current (ID): 1.4A; Number of Channels: 1; Drain to Source Resistance: 220mR; Termination: SMD/SMT; Voltage Rating (DC): 30V; Polarity: N-CHANNEL; Series: -; Drain-source On Resistance-Max: 220mR; Length: 3.04mm; Width: 1.4mm; Height: 1.02mm; Radiation Hardening: No; Reach SVHC Compliant: No; Lead Free: Lead Free; RoHS Compliant: Yes; ComponentLink1URL: https://datasheet.ciiva.com/11176/zxm61n03f-11176547.pdf?src-supplier=Avnet; ComponentLink1Description: https://datasheet.ciiva.com/11176/zxm61n03f-11176547.pdf?src-supplier=Avnet; ComponentLink2URL: https://datasheet.ciiva.com/935/zxm61n03f-935122.pdf?src-supplier=Digikey; ComponentLink2Description: https://datasheet.ciiva.com/935/zxm61n03f-935122.pdf?src-supplier=Digikey; ComponentLink3URL: https://datasheet.ciiva.com/5775/1643170-5775147.pdf?src-supplier=Farnell; ComponentLink3Description: https://datasheet.ciiva.com/5775/1643170-5775147.pdf?src-supplier=Farnell; ComponentLink4URL: https://datasheet.ciiva.com/935/zxm61n03f-935123.pdf?src-supplier=Digikey; ComponentLink4Description: https://datasheet.ciiva.com/935/zxm61n03f-935123.pdf?src-supplier=Digikey; ComponentLink5URL: https://datasheet.ciiva.com/935/zxm61n03f-935124.pdf?src-supplier=Digikey; ComponentLink5Description: https://datasheet.ciiva.com/935/zxm61n03f-935124.pdf?src-supplier=Digikey; ComponentLink6URL: https://datasheet.ciiva.com/8024/1643170-8024088.pdf?src-supplier=Element14; ComponentLink6Description: https://datasheet.ciiva.com/8024/1643170-8024088.pdf?src-supplier=Element14
footprint ZXM61N03FTA (MOSFET N-CH 30V 1.4A SOT23-3)
pins: D, G, S

## ZXM61P03FTA
designator M?  Manufacturer Part Number: ZXM61P03FTA
ZXM61P03F 30 V 0.35 Ohm P-Channel Enhancement Mode Vertical DMOS FET - SOT-23; Manufacturer: Diodes Zetex; Rise Time: 2.9ns; Gate to Source Voltage (Vgs): 20V; Turn-Off Delay Time: 8.9ns; Turn-On Delay Time: 1.9ns; Nominal Vgs: -1V; Max Power Dissipation: 625mW; Rds On Max: 350mR; Input Capacitance: 140pF; Number of Elements: 1; Dual Supply Voltage: -30V; Drain to Source Voltage (Vdss): 30V; Continuous Drain Current (ID): 1.1A; Drain to Source Resistance: 550mR; Power Dissipation: 806mW; Current Rating: -1.1A; Supplier: Digikey; Supplier Part Number: ZXM61P03FCT-ND; RoHS: Yes; Category: MOSFETs; Stock: 104868; Pricing: 1=0.42, 10=0.357, 100=0.2482, 500=0.19376, 1000=0.15748 (USD); Mounting Technology: Surface Mount; Case/Package: SOT-23; Pins: 3; Weight: 0.000282oz; Min Operating Temperature: -55°C; Max Operating Temperature: 150°C; Fall Time: 2.9ns; Packaging: Tape and Reel; Package Quantity: 3000; Number of Channels: 1; Termination: SMD/SMT; Voltage Rating (DC): -30V; Polarity: P-CHANNEL; Series: -; Drain-source On Resistance-Max: 350mR; Length: 3.04mm; Width: 1.4mm; Height: 1.02mm; Radiation Hardening: No; Reach SVHC Compliant: No; Lead Free: Lead Free; RoHS Compliant: Yes; ComponentLink1URL: https://datasheet.ciiva.com/11176/zxm61p03f-11176401.pdf?src-supplier=Avnet; ComponentLink1Description: https://datasheet.ciiva.com/11176/zxm61p03f-11176401.pdf?src-supplier=Avnet; ComponentLink2URL: https://datasheet.ciiva.com/11176/zxm61p03f-11176557.pdf?src-supplier=Avnet; ComponentLink2Description: https://datasheet.ciiva.com/11176/zxm61p03f-11176557.pdf?src-supplier=Avnet; ComponentLink3URL: https://datasheet.ciiva.com/935/zxm61p03f-935140.pdf?src-supplier=Digikey; ComponentLink3Description: https://datasheet.ciiva.com/935/zxm61p03f-935140.pdf?src-supplier=Digikey; ComponentLink4URL: https://datasheet.ciiva.com/935/zxm61p03f-935141.pdf?src-supplier=Digikey; ComponentLink4Description: https://datasheet.ciiva.com/935/zxm61p03f-935141.pdf?src-supplier=Digikey; ComponentLink5URL: https://datasheet.ciiva.com/935/zxm61p03f-935142.pdf?src-supplier=Digikey; ComponentLink5Description: https://datasheet.ciiva.com/935/zxm61p03f-935142.pdf?src-supplier=Digikey; ComponentLink6URL: https://datasheet.ciiva.com/4443/zxm61p03f-4443147.pdf?src-supplier=Mouser; ComponentLink6Description: https://datasheet.ciiva.com/4443/zxm61p03f-4443147.pdf?src-supplier=Mouser; ComponentLink7URL: https://datasheet.ciiva.com/16216/zxm61p03f-16216056.pdf?src-supplier=Future+Electronics; ComponentLink7Description: https://datasheet.ciiva.com/16216/zxm61p03f-16216056.pdf?src-supplier=Future+Electronics
footprint ZXM61P03FTA (MOSFET P-CH 30V 1.1A SOT23-3)
pins: D, G, S